# EAGLE library part 615006143421 (library Wuerth_Elektronik_eiCan_Modular_Jack_Connectors_v1.1)
WR-MJ Horizontal 6P6C Half Shielded Modular Jack Tab Down, 6 Pins
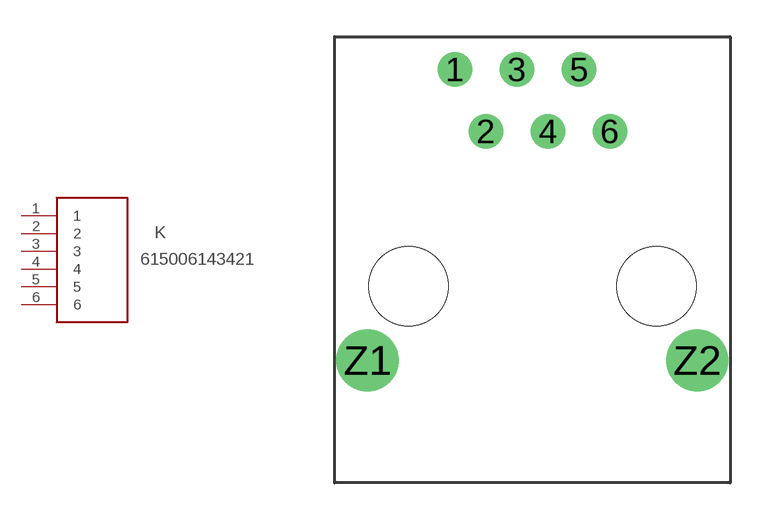
[diagram p35: symbol with the pads of 615006143421; footprint 615006143421]

Designator prefix K

## 615006143421  [615006143421]
1  1  pas
2  2  pas
3  3  pas
4  4  pas
5  5  pas
6  6  pas

## Footprint 615006143421 (pad centres in mm)
WR-MJ Horizontal 6P6C Half Shielded Modular Jack Tab Down, 6 Pins
drill 0.9 round: 1 -3.175,8.89; 2 -1.905,6.35; 3 -0.635,8.89; 4 0.635,6.35; 5 1.905,8.89; 6 3.175,6.35
drill 1.7 round: Z1 -6.75,-3.05; Z2 6.75,-3.05
hole 3.25 at -5.08,0
hole 3.25 at 5.08,0